# Altium schematic symbol library ESP32P4C5模组封装.SchLib: 2 symbols
Pins are listed as number, name and electrical type; pins without a type are passive.

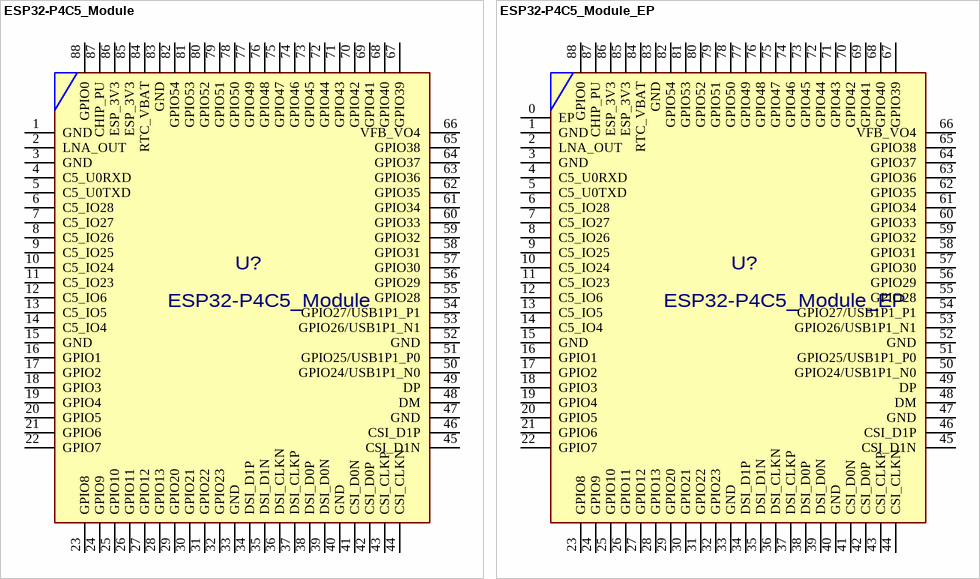
[diagram p0: symbols ESP32-P4C5_Module to ESP32-P4C5_Module_EP]

## ESP32-P4C5_Module
designator U?
footprint ESP32P4C5模组 (25*25MM无散热焊盘)
pins: 1 GND, 2 LNA_OUT, 3 GND, 4 C5_U0RXD, 5 C5_U0TXD, 6 C5_IO28, 7 C5_IO27, 8 C5_IO26, 9 C5_IO25, 10 C5_IO24, 11 C5_IO23, 12 C5_IO6, 13 C5_IO5, 14 C5_IO4, 15 GND, 16 GPIO1, 17 GPIO2, 18 GPIO3, 19 GPIO4, 20 GPIO5, 21 GPIO6, 22 GPIO7, 23 GPIO8, 24 GPIO9, 25 GPIO10, 26 GPIO11, 27 GPIO12, 28 GPIO13, 29 GPIO20, 30 GPIO21, 31 GPIO22, 32 GPIO23, 33 GND, 34 DSI_D1P, 35 DSI_D1N, 36 DSI_CLKN, 37 DSI_CLKP, 38 DSI_D0P, 39 DSI_D0N, 40 GND, 41 CSI_D0N, 42 CSI_D0P, 43 CSI_CLKP, 44 CSI_CLKN, 45 CSI_D1N, 46 CSI_D1P, 47 GND, 48 DM, 49 DP, 50 GPIO24/USB1P1_N0, 51 GPIO25/USB1P1_P0, 52 GND, 53 GPIO26/USB1P1_N1, 54 GPIO27/USB1P1_P1, 55 GPIO28, 56 GPIO29, 57 GPIO30, 58 GPIO31, 59 GPIO32, 60 GPIO33, 61 GPIO34, 62 GPIO35, 63 GPIO36, 64 GPIO37, 65 GPIO38, 66 VFB_VO4, 67 GPIO39, 68 GPIO40, 69 GPIO41, 70 GPIO42, 71 GPIO43, 72 GPIO44, 73 GPIO45, 74 GPIO46, 75 GPIO47, 76 GPIO48, 77 GPIO49, 78 GPIO50, 79 GPIO51, 80 GPIO52, 81 GPIO53, 82 GPIO54, 83 GND, 84 RTC_VBAT, 85 ESP_3V3, 86 ESP_3V3, 87 CHIP_PU, 88 GPIO0

## ESP32-P4C5_Module_EP
designator U?
footprint ESP32P4C5模组_EP (25*25MM带散热焊盘)
pins: 0 EP, 1 GND, 2 LNA_OUT, 3 GND, 4 C5_U0RXD, 5 C5_U0TXD, 6 C5_IO28, 7 C5_IO27, 8 C5_IO26, 9 C5_IO25, 10 C5_IO24, 11 C5_IO23, 12 C5_IO6, 13 C5_IO5, 14 C5_IO4, 15 GND, 16 GPIO1, 17 GPIO2, 18 GPIO3, 19 GPIO4, 20 GPIO5, 21 GPIO6, 22 GPIO7, 23 GPIO8, 24 GPIO9, 25 GPIO10, 26 GPIO11, 27 GPIO12, 28 GPIO13, 29 GPIO20, 30 GPIO21, 31 GPIO22, 32 GPIO23, 33 GND, 34 DSI_D1P, 35 DSI_D1N, 36 DSI_CLKN, 37 DSI_CLKP, 38 DSI_D0P, 39 DSI_D0N, 40 GND, 41 CSI_D0N, 42 CSI_D0P, 43 CSI_CLKP, 44 CSI_CLKN, 45 CSI_D1N, 46 CSI_D1P, 47 GND, 48 DM, 49 DP, 50 GPIO24/USB1P1_N0, 51 GPIO25/USB1P1_P0, 52 GND, 53 GPIO26/USB1P1_N1, 54 GPIO27/USB1P1_P1, 55 GPIO28, 56 GPIO29, 57 GPIO30, 58 GPIO31, 59 GPIO32, 60 GPIO33, 61 GPIO34, 62 GPIO35, 63 GPIO36, 64 GPIO37, 65 GPIO38, 66 VFB_VO4, 67 GPIO39, 68 GPIO40, 69 GPIO41, 70 GPIO42, 71 GPIO43, 72 GPIO44, 73 GPIO45, 74 GPIO46, 75 GPIO47, 76 GPIO48, 77 GPIO49, 78 GPIO50, 79 GPIO51, 80 GPIO52, 81 GPIO53, 82 GPIO54, 83 GND, 84 RTC_VBAT, 85 ESP_3V3, 86 ESP_3V3, 87 CHIP_PU, 88 GPIO0